# Altium schematic symbol library Resistance.SCHLIB: 24 symbols
Pins are listed as number, name and electrical type; pins without a type are passive.

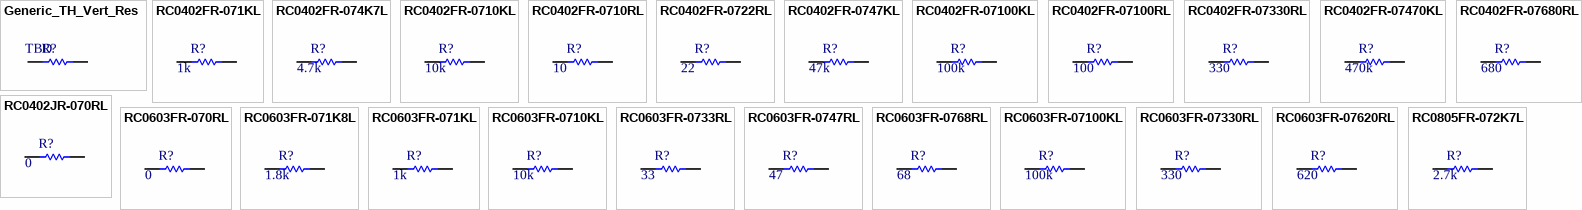
[diagram p0: symbols Generic_TH_Vert_Res to RC0805FR-072K7L]

## Generic_TH_Vert_Res
designator R?, comment TBD
resistance traversante verticale générique; Manufacturer: *; Manufacturer Part Number: *; Type: Through Hole; Power: *; Supplier 1: Farnell; Supplier Part Number 1: TBD; Value: TBD; Precision: *
footprint RESADV480W80L1200D390 (Wirebound Resistor pitch 4.8mm Radial tape)
pins: 1, 2

## RC0402FR-071KL
designator R?  value 1k  (hidden comment: RC0402FR-071KL)
RES SMD 1K OHM 1% 1/16W 0402; Manufacturer: Yageo; Power: 63mW; Vmax: 50V; Type: Thick Film; ComponentLink1Description: Manufacturer; ComponentLink1URL: http://www.yageo.com/NewPortal/_en/index.jsp; ComponentLink2Description: Datasheet; ComponentLink2URL: http://www.farnell.com/datasheets/2167052.pdf; Manufacturer Part Number: RC0402FR-071KL; Supplier 1: Farnell; Supplier Part Number 1: 9239235; Precision: ±1%; Supplier 2: JLCPCB; Supplier Part Number 2: C11702; Supplier Footprint 2: 0402
footprint RESC1005X04N (Chip Resistor, 2-Leads, Body 1,1x0,5mm, IPC Medium Density)
pins: 1, 2

## RC0402FR-074K7L
designator R?  value 4.7k  (hidden comment: RC0402FR-074K7L)
RES SMD 4K7 OHM 1% 1/16W 0402; Manufacturer: Yageo; Power: 63mW; Vmax: 50V; Type: Thick Film; ComponentLink1Description: Manufacturer; ComponentLink1URL: http://www.yageo.com/NewPortal/_en/index.jsp; ComponentLink2Description: Datasheet; ComponentLink2URL: http://www.farnell.com/datasheets/2167052.pdf; Manufacturer Part Number: RC0402FR-074K7L; Supplier 1: Farnell; Supplier Part Number 1: 9239316; Precision: ±1%; Supplier 2: JLCPCB; Supplier Part Number 2: C25900; Supplier Footprint 2: 0402
footprint RESC1005X04N (Chip Resistor, 2-Leads, Body 1,1x0,5mm, IPC Medium Density)
pins: 1, 2

## RC0402FR-0710KL
designator R?  value 10k  (hidden comment: RC0402FR-0710KL)
RES SMD 10K OHM 1% 1/16W 0402; Manufacturer: Yageo; Power: 63mW; Vmax: 50V; Type: Thick Film; ComponentLink1Description: Manufacturer; ComponentLink1URL: http://www.yageo.com/NewPortal/_en/index.jsp; ComponentLink2Description: Datasheet; ComponentLink2URL: http://www.farnell.com/datasheets/2167052.pdf; Supplier 1: Farnell; Supplier Part Number 1: 9239359; Manufacturer Part Number: RC0402FR-0710KL; Precision: ±1%; Supplier 2: JLCPCB; Supplier Part Number 2: C25744; Supplier Footprint 2: 0402
footprint RESC1005X04N (Chip Resistor, 2-Leads, Body 1,1x0,5mm, IPC Medium Density)
pins: 1, 2

## RC0402FR-0710RL
designator R?  value 10  (hidden comment: RC0402FR-0710RL)
RES SMD 10 OHM 1% 1/16W 0402; Manufacturer: Yageo; Power: 63mW; Vmax: 50V; Type: Thick Film; ComponentLink1Description: Manufacturer; ComponentLink1URL: http://www.yageo.com/NewPortal/_en/index.jsp; ComponentLink2Description: Datasheet; ComponentLink2URL: http://www.farnell.com/datasheets/1018594.pdf; Manufacturer Part Number: RC0402FR-0710RL; Supplier 1: Farnell; Supplier Part Number 1: 9238999; Precision: ±1%; Supplier 2: JLCPCB; Supplier Part Number 2: C25077; Supplier Footprint 2: 0402
footprint RESC1005X04N (Chip Resistor, 2-Leads, Body 1,1x0,5mm, IPC Medium Density)
pins: 1, 2

## RC0402FR-0722RL
designator R?  value 22  (hidden comment: RC0402FR-0722RL)
RES SMD 22 OHM 1% 1/16W 0402; Manufacturer: Yageo; Power: 63mW; Vmax: 50V; Type: Thick Film; ComponentLink1Description: Manufacturer; ComponentLink1URL: http://www.yageo.com/NewPortal/_en/index.jsp; ComponentLink2Description: Datasheet; ComponentLink2URL: http://www.farnell.com/datasheets/2167052.pdf; Manufacturer Part Number: RC0402FR-0722RL; Supplier 1: Farnell; Supplier Part Number 1: 9239030; Precision: ±1%; Supplier 2: JLCPCB; Supplier Part Number 2: C25092; Supplier Footprint 2: 0402
footprint RESC1005X04N (Chip Resistor, 2-Leads, Body 1,1x0,5mm, IPC Medium Density)
pins: 1, 2

## RC0402FR-0747KL
designator R?  value 47k  (hidden comment: RC0402FR-0747KL)
RES SMD 47K OHM 1% 1/16W 0402; Manufacturer: Yageo; Power: 63mW; Vmax: 50V; Type: Thick Film; ComponentLink1Description: Manufacturer; ComponentLink1URL: http://www.yageo.com/NewPortal/_en/index.jsp; ComponentLink2Description: Datasheet; ComponentLink2URL: http://www.farnell.com/datasheets/2167052.pdf; Manufacturer Part Number: RC0402FR-0747KL; Supplier 1: Farnell; Supplier Part Number 1: 9239430; Precision: ±1%; Supplier 2: JLCPCB; Supplier Part Number 2: C25792; Supplier Footprint 2: 0402
footprint RESC1005X04N (Chip Resistor, 2-Leads, Body 1,1x0,5mm, IPC Medium Density)
pins: 1, 2

## RC0402FR-07100KL
designator R?  value 100k  (hidden comment: RC0402FR-07100KL)
RES SMD 100K OHM 1% 1/16W 0402; Manufacturer: Yageo; Power: 63mW; Vmax: 50V; Type: Thick Film; ComponentLink1Description: Manufacturer; ComponentLink1URL: http://www.yageo.com/NewPortal/_en/index.jsp; ComponentLink2Description: Datasheet; ComponentLink2URL: http://www.farnell.com/datasheets/2167052.pdf; Manufacturer Part Number: RC0402FR-07100KL; Supplier 1: Farnell; Supplier Part Number 1: 9239472; Precision: ±1%; Supplier 2: JLCPCB; Supplier Part Number 2: C25741; Supplier Footprint 2: 0402
footprint RESC1005X04N (Chip Resistor, 2-Leads, Body 1,1x0,5mm, IPC Medium Density)
pins: 1, 2

## RC0402FR-07100RL
designator R?  value 100  (hidden comment: RC0402FR-07100RL)
RES SMD 100 OHM 1% 1/16W 0402; Manufacturer: Yageo; Power: 63mW; Vmax: 50V; Type: Thick Film; ComponentLink1Description: Manufacturer; ComponentLink1URL: http://www.yageo.com/NewPortal/_en/index.jsp; ComponentLink2Description: Datasheet; ComponentLink2URL: http://www.farnell.com/datasheets/2167052.pdf; Manufacturer Part Number: RC0402FR-07100RL; Supplier 1: Farnell; Supplier Part Number 1: 9239111; Precision: ±1%; Supplier 2: JLCPCB; Supplier Part Number 2: C25076; Supplier Footprint 2: 0402
footprint RESC1005X04N (Chip Resistor, 2-Leads, Body 1,1x0,5mm, IPC Medium Density)
pins: 1, 2

## RC0402FR-07330RL
designator R?  value 330  (hidden comment: RC0402FR-07330RL)
RES SMD 330 OHM 1% 1/16W 0402; Manufacturer: Yageo; Power: 63mW; Vmax: 50V; Type: Thick Film; ComponentLink1Description: Manufacturer; ComponentLink1URL: http://www.yageo.com/NewPortal/_en/index.jsp; ComponentLink2Description: Datasheet; ComponentLink2URL: http://www.farnell.com/datasheets/2167052.pdf; Manufacturer Part Number: RC0402FR-07330RL; Supplier 1: Farnell; Supplier Part Number 1: 9239170; Precision: ±1%; Supplier 2: JLCPCB; Supplier Part Number 2: C25104; Supplier Footprint 2: 0402
footprint RESC1005X04N (Chip Resistor, 2-Leads, Body 1,1x0,5mm, IPC Medium Density)
pins: 1, 2

## RC0402FR-07470KL
designator R?  value 470k  (hidden comment: RC0402FR-07470KL)
RES SMD 470K OHM 1% 1/16W 0402; Manufacturer: Yageo; Power: 63mW; Vmax: 50V; Type: Thick Film; ComponentLink1Description: Manufacturer; ComponentLink1URL: http://www.yageo.com/NewPortal/_en/index.jsp; ComponentLink2Description: Datasheet; ComponentLink2URL: http://www.farnell.com/datasheets/2167052.pdf; Manufacturer Part Number: RC0402FR-07470KL; Supplier 1: Farnell; Supplier Part Number 1: 9239553; Precision: ±1%; Supplier 2: JLCPCB; Supplier Part Number 2: C25790; Supplier Footprint 2: 0402
footprint RESC1005X04N (Chip Resistor, 2-Leads, Body 1,1x0,5mm, IPC Medium Density)
pins: 1, 2

## RC0402FR-07680RL
designator R?  value 680  (hidden comment: RC0402FR-07680RL)
RES SMD 680 OHM 1% 1/16W 0402; Manufacturer: Yageo; Power: 63mW; Vmax: 50V; Type: Thick Film; ComponentLink1Description: Manufacturer; ComponentLink1URL: http://www.yageo.com/NewPortal/_en/index.jsp; ComponentLink2Description: Datasheet; ComponentLink2URL: http://www.farnell.com/datasheets/1018594.pdf; Manufacturer Part Number: RC0402FR-07680RL; Precision: ±1%; Supplier 2: JLCPCB; Supplier Part Number 2: C25130; Supplier 1: Farnell; Supplier Part Number 1: 9239219; Supplier Footprint 2: 0402
footprint RESC1005X04N (Chip Resistor, 2-Leads, Body 1,1x0,5mm, IPC Medium Density)
pins: 1, 2

## RC0402JR-070RL
designator R?  value 0  (hidden comment: RC0402JR-070RL)
RES SMD 0 OHM 5% 1/16W 0402; Manufacturer: Yageo; Power: 63mW; Vmax: 50V; Type: Thick Film; ComponentLink1Description: Manufacturer; ComponentLink1URL: http://www.yageo.com/NewPortal/_en/index.jsp; ComponentLink2Description: Datasheet; ComponentLink2URL: http://www.farnell.com/datasheets/1018594.pdf; Manufacturer Part Number: RC0402JR-070RL; Supplier 1: Farnell; Supplier Part Number 1: 9232516; Precision: ±5%; Supplier 2: JLCPCB; Supplier Part Number 2: C17168; Supplier Footprint 2: 0402
footprint RESC1005X04N (Chip Resistor, 2-Leads, Body 1,1x0,5mm, IPC Medium Density)
pins: 1, 2

## RC0603FR-070RL
designator R?  value 0  (hidden comment: RC0603FR-070RL)
RES SMD 0 OHM 1% 1/10W 0603; Manufacturer: Yageo; Power: 100mW; Vmax: 50V; Manufacturer Part Number: RC0603FR-070RL; Type: Thick Film; ComponentLink1Description: Manufacturer; ComponentLink1URL: http://www.yageo.com/NewPortal/_en/index.jsp; ComponentLink2Description: Datasheet; ComponentLink2URL: http://www.farnell.com/datasheets/2167052.pdf; Supplier 1: Farnell; Precision: ±1%; Supplier Part Number 1: 2309106; Supplier 2: JLCPCB; Supplier Part Number 2: C21189; Supplier Footprint 2: 0603
footprint RESC1608X06N (Chip Resistor, 2-Leads, Body 1,6x0,8mm, IPC Medium Density)
pins: 1, 2

## RC0603FR-071K8L
designator R?  value 1.8k  (hidden comment: RC0603FR-071K8L)
RES SMD 1.8K OHM 1% 1/10W 0603; Manufacturer: Yageo; Power: 100mW; Vmax: 50V; Manufacturer Part Number: RC0603FR-071K8L; Type: Thick Film; ComponentLink1Description: Manufacturer; ComponentLink1URL: http://www.yageo.com/NewPortal/_en/index.jsp; ComponentLink2Description: Datasheet; ComponentLink2URL: http://www.farnell.com/datasheets/2167052.pdf; Precision: ±1%; Supplier 1: Farnell; Supplier Part Number 1: 9238514; Supplier 2: JLCPCB; Supplier Part Number 2: C4177; Supplier Footprint 2: 0603
footprint RESC1608X06N (Chip Resistor, 2-Leads, Body 1,6x0,8mm, IPC Medium Density)
pins: 1, 2

## RC0603FR-071KL
designator R?  value 1k  (hidden comment: RC0603FR-071KL)
RES SMD 1K OHM 1% 1/10W 0603; Manufacturer: Yageo; Power: 100mW; Vmax: 50V; Manufacturer Part Number: RC0603FR-071KL; Type: Thick Film; ComponentLink1Description: Manufacturer; ComponentLink1URL: http://www.yageo.com/NewPortal/_en/index.jsp; ComponentLink2Description: Datasheet; ComponentLink2URL: http://www.farnell.com/datasheets/2167052.pdf; Precision: ±1%; Supplier 1: Farnell; Supplier Part Number 1: 9238484; Supplier 2: JLCPCB; Supplier Part Number 2: C21190; Supplier Footprint 2: 0603
footprint RESC1608X06N (Chip Resistor, 2-Leads, Body 1,6x0,8mm, IPC Medium Density)
pins: 1, 2

## RC0603FR-0710KL
designator R?  value 10k  (hidden comment: RC0603FR-0710KL)
RES SMD 10K OHM 1% 1/10W 0603; Manufacturer: Yageo; Power: 100mW; Vmax: 50V; Manufacturer Part Number: RC0603FR-0710KL; Type: Thick Film; ComponentLink1Description: Manufacturer; ComponentLink1URL: http://www.yageo.com/NewPortal/_en/index.jsp; ComponentLink2Description: Datasheet; ComponentLink2URL: http://www.farnell.com/datasheets/2167052.pdf; Supplier 1: Farnell; Supplier Part Number 1: 9238603; Precision: ±1%; Supplier 2: JLCPCB; Supplier Part Number 2: C25804; Supplier Footprint 2: 0603
footprint RESC1608X06N (Chip Resistor, 2-Leads, Body 1,6x0,8mm, IPC Medium Density)
pins: 1, 2

## RC0603FR-0733RL
designator R?  value 33  (hidden comment: RC0603FR-0733RL)
RES SMD 33 OHM 1% 1/10W 0603; Manufacturer: Yageo; Power: 100mW; Vmax: 50V; Manufacturer Part Number: RC0603FR-0733RL; Type: Thick Film; ComponentLink1Description: Manufacturer; ComponentLink1URL: http://www.yageo.com/NewPortal/_en/index.jsp; ComponentLink2Description: Datasheet; ComponentLink2URL: http://www.farnell.com/datasheets/2167052.pdf; Supplier 1: Farnell; Supplier Part Number 1: 9238301; Precision: ±1%; Supplier 2: JLCPCB; Supplier Part Number 2: C23140; Supplier Footprint 2: 0603
footprint RESC1608X06N (Chip Resistor, 2-Leads, Body 1,6x0,8mm, IPC Medium Density)
pins: 1, 2

## RC0603FR-0747RL
designator R?  value 47  (hidden comment: RC0603FR-0747RL)
RES SMD 47 OHM 1% 1/10W 0603; Manufacturer: Yageo; Power: 100mW; Vmax: 50V; Manufacturer Part Number: RC0603FR-0747RL; Type: Thick Film; ComponentLink1Description: Manufacturer; ComponentLink1URL: http://www.yageo.com/NewPortal/_en/index.jsp; ComponentLink2Description: Datasheet; ComponentLink2URL: http://www.farnell.com/datasheets/2167052.pdf; Precision: ±1%; Supplier 1: Farnell; Supplier Part Number 1: 9238328; Supplier 2: JLCPCB; Supplier Part Number 2: C23182; Supplier Footprint 2: 0603
footprint RESC1608X06N (Chip Resistor, 2-Leads, Body 1,6x0,8mm, IPC Medium Density)
pins: 1, 2

## RC0603FR-0768RL
designator R?  value 68  (hidden comment: RC0603FR-0768RL)
RES SMD 68 OHM 1% 1/10W 0603; Manufacturer: Yageo; Power: 100mW; Vmax: 50V; Manufacturer Part Number: RC0603FR-0768RL; Type: Thick Film; ComponentLink1Description: Manufacturer; ComponentLink1URL: http://www.yageo.com/NewPortal/_en/index.jsp; ComponentLink2Description: Datasheet; ComponentLink2URL: http://www.farnell.com/datasheets/1868787.pdf; Supplier 1: Farnell; Supplier Part Number 1: 9238344; Precision: ±1%; Supplier 2: JLCPCB; Supplier Part Number 2: C27592; Supplier Footprint 2: 0603
footprint RESC1608X06N (Chip Resistor, 2-Leads, Body 1,6x0,8mm, IPC Medium Density)
pins: 1, 2

## RC0603FR-07100KL
designator R?  value 100k  (hidden comment: RC0603FR-07100KL)
RES SMD 100K OHM 1% 1/10W 0603; Manufacturer: Yageo; Power: 100mW; Vmax: 50V; Manufacturer Part Number: RC0603FR-07100KL; Type: Thick Film; ComponentLink1Description: Manufacturer; ComponentLink1URL: http://www.yageo.com/NewPortal/_en/index.jsp; ComponentLink2Description: Datasheet; ComponentLink2URL: http://www.farnell.com/datasheets/2167052.pdf; Supplier 1: Farnell; Supplier Part Number 1: 2309107; Precision: ±1%; Supplier 2: JLCPCB; Supplier Part Number 2: C25803; Supplier Footprint 2: 0603
footprint RESC1608X06N (Chip Resistor, 2-Leads, Body 1,6x0,8mm, IPC Medium Density)
pins: 1, 2

## RC0603FR-07330RL
designator R?  value 330  (hidden comment: RC0603FR-07330RL)
RES SMD 330 OHM 1% 1/10W 0603; Manufacturer: Yageo; Power: 100mW; Vmax: 50V; Manufacturer Part Number: RC0603FR-07330RL; Type: Thick Film; ComponentLink1Description: Manufacturer; ComponentLink1URL: http://www.yageo.com/NewPortal/_en/index.jsp; ComponentLink2Description: Datasheet; ComponentLink2URL: http://www.farnell.com/datasheets/2167052.pdf; Supplier 1: Farnell; Supplier Part Number 1: 9238425; Precision: ±1%; Supplier 2: JLCPCB; Supplier Part Number 2: C23138; Supplier Footprint 2: 0603
footprint RESC1608X06N (Chip Resistor, 2-Leads, Body 1,6x0,8mm, IPC Medium Density)
pins: 1, 2

## RC0603FR-07620RL
designator R?  value 620  (hidden comment: RC0603FR-07620RL)
RES SMD 620 OHM 1% 1/10W 0603; Manufacturer: Yageo; Power: 100mW; Vmax: 50V; Manufacturer Part Number: RC0603FR-07620RL; Type: Thick Film; ComponentLink1Description: Manufacturer; ComponentLink1URL: http://www.yageo.com/NewPortal/_en/index.jsp; ComponentLink2Description: Datasheet; ComponentLink2URL: http://www.farnell.com/datasheets/1868787.pdf; Precision: ±1%; Supplier 2: JLCPCB; Supplier Part Number 2: C23220; Supplier Footprint 2: 0603; Supplier 1: Digi-Key; Supplier Part Number 1: 311-620HRCT-ND
footprint RESC1608X06N (Chip Resistor, 2-Leads, Body 1,6x0,8mm, IPC Medium Density)
pins: 1, 2

## RC0805FR-072K7L
designator R?  value 2.7k  (hidden comment: RC0805FR-072K7L)
RES SMD 2K7 OHM 1% 1/8W 0805; Manufacturer: Yageo; Power: 125mW; Vmax: 50V; Manufacturer Part Number: RC0805FR-072K7L; Type: Thick Film; ComponentLink1Description: Manufacturer; ComponentLink1URL: http://www.yageo.com/NewPortal/_en/index.jsp; ComponentLink2Description: Datasheet; ComponentLink2URL: http://www.farnell.com/datasheets/444164.pdf; Precision: ±1%; Supplier 2: JLCPCB; Supplier Part Number 2: C17530; Supplier 1: Farnell; Supplier Part Number 1: 9237666; Supplier Footprint 2: 0805
footprint RESC2012X06N (Chip Resistor, 2-Leads, Body 2,0x1,3mm, IPC Medium Density)
pins: 1, 2